# EAGLE library part PCIE (library work)
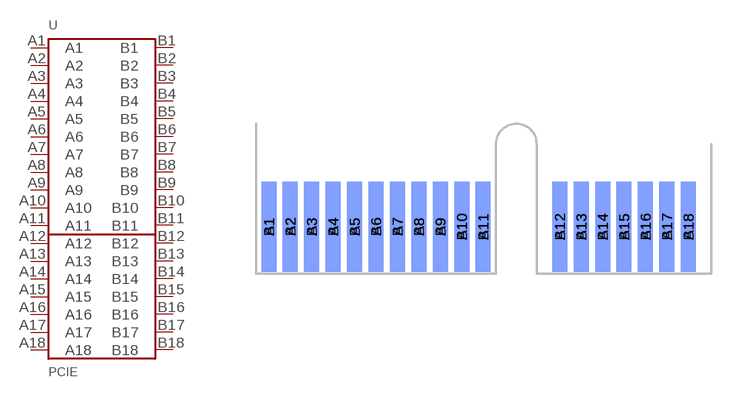
[diagram p48: symbol with the pads of PCI-EXPRESS-X1_BOARD; footprint PCI-EXPRESS-X1_BOARD]

Designator prefix -

## PCIE  [PCI-EXPRESS-X1_BOARD]
A1  A1
A2  A2
A3  A3
A4  A4
A5  A5
A6  A6
A7  A7
A8  A8
A9  A9
A10  A10
A11  A11
A12  A12
A13  A13
A14  A14
A15  A15
A16  A16
A17  A17
A18  A18
B1  B1
B2  B2
B3  B3
B4  B4
B5  B5
B6  B6
B7  B7
B8  B8
B9  B9
B10  B10
B11  B11
B12  B12
B13  B13
B14  B14
B15  B15
B16  B16
B17  B17
B18  B18

## Footprint PCI-EXPRESS-X1_BOARD (pad centres in mm)
smd 0.7 x 4.2 bottom: A1 -11.55,2.2; A2 -10.55,2.2; A3 -9.55,2.2; A4 -8.55,2.2; A5 -7.55,2.2; A6 -6.55,2.2; A7 -5.55,2.2; A8 -4.55,2.2; A9 -3.55,2.2; A10 -2.55,2.2; A11 -1.55,2.2; A12 2.025,2.2; A13 3.025,2.2; A14 4.025,2.2; A15 5.025,2.2; A16 6.025,2.2; A17 7.025,2.2; A18 8.025,2.2
smd 0.7 x 4.2: B1 -11.55,2.2; B2 -10.55,2.2; B3 -9.55,2.2; B4 -8.55,2.2; B5 -7.55,2.2; B6 -6.55,2.2; B7 -5.55,2.2; B8 -4.55,2.2; B9 -3.55,2.2; B10 -2.55,2.2; B11 -1.55,2.2; B12 2.025,2.2; B13 3.025,2.2; B14 4.025,2.2; B15 5.025,2.2; B16 6.025,2.2; B17 7.025,2.2; B18 8.025,2.2